# Altium footprint library Pattern No3d 20090609.PcbLib: 323 footprints (part 2 of 22)
Each footprint in its own frame and in the unit in brackets; x right, y up, seen from the top. Pads: shape width x height; smd on the part's side, far side on the other; paste and mask are expansions set on the pad; w line width, h text height; cw(c..) or ccw(c..) is an arc to the next point about the centre after c.
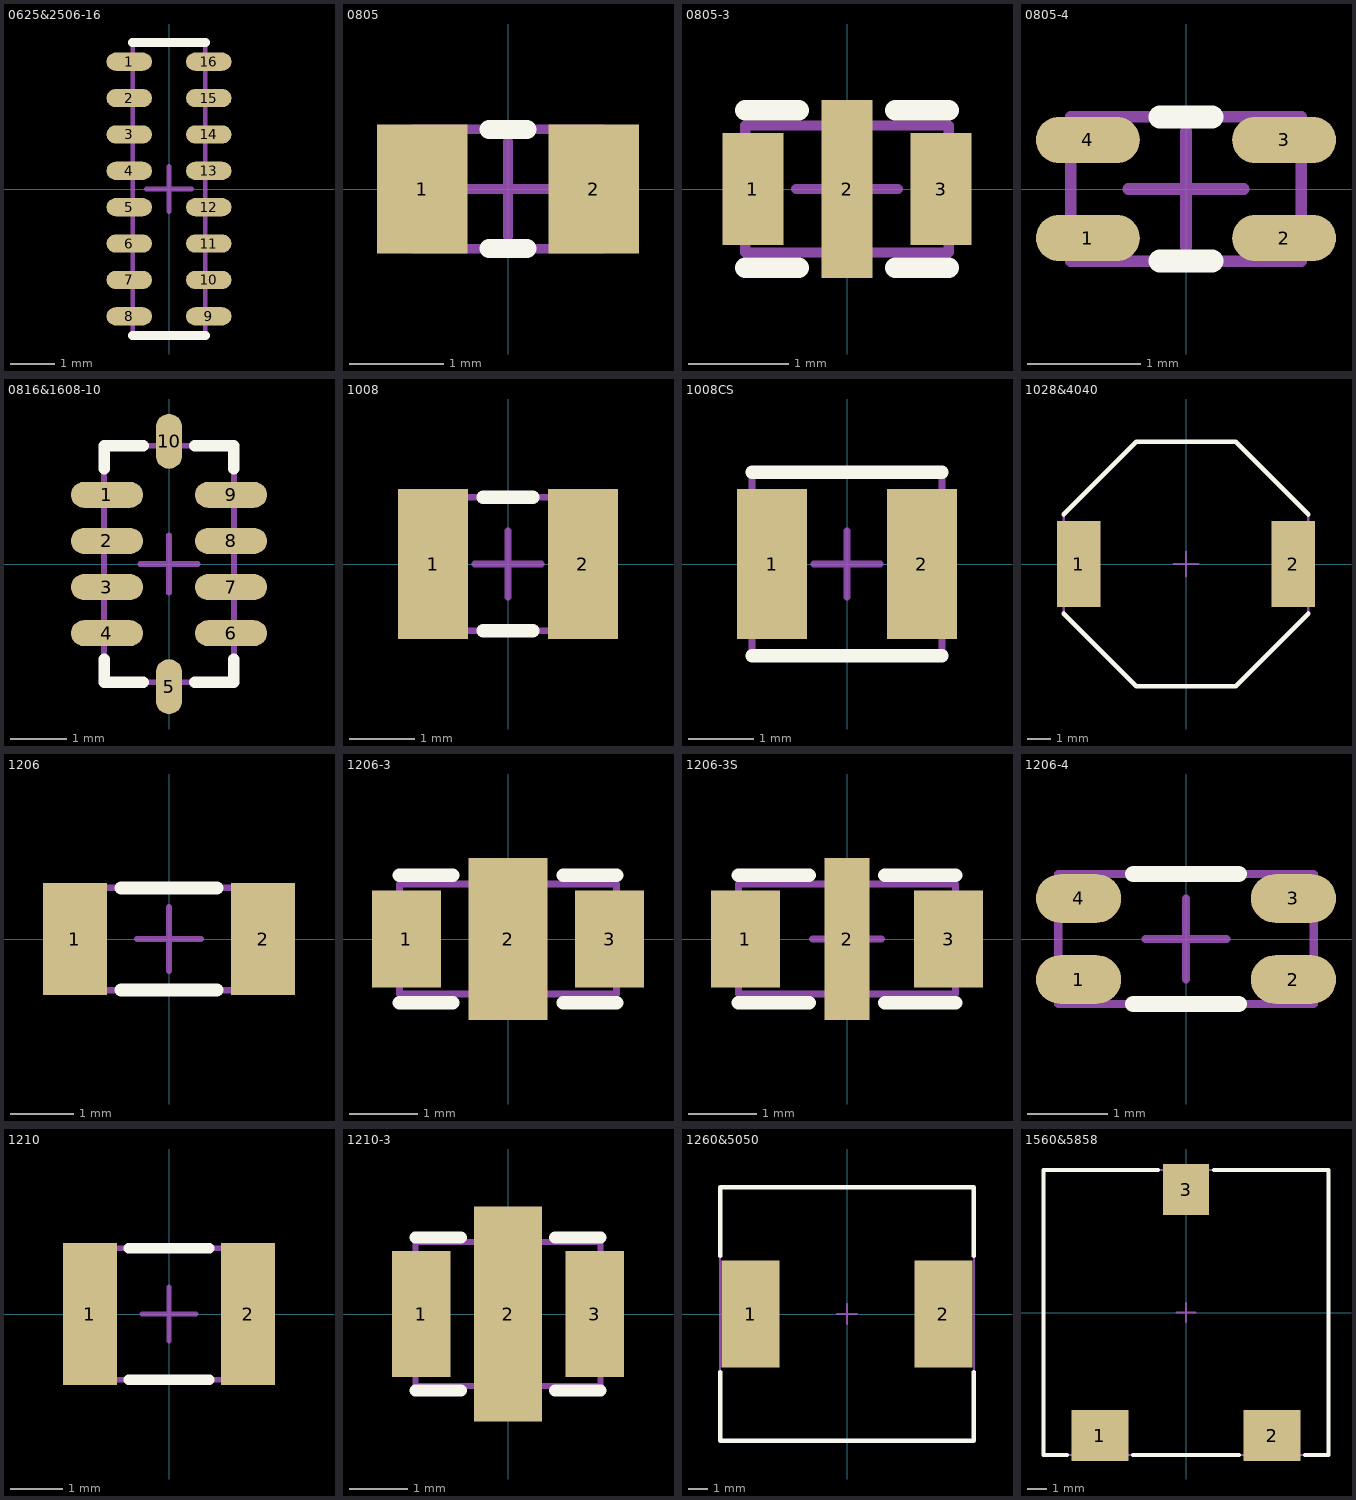
[diagram p1: the footprints below, top view; thin cyan lines are the x and y axes]

## 0625&2506-16 [mil] "http://www.bourns.com/data/global/pdfs/CAT16PC4F12.pdf"
pads (16):
  oval 40x16 smd mask+4: 1(-35,112) 2(-35,80) 3(-35,48) 4(-35,16) 5(-35,-16) 6(-35,-48) 7(-35,-80) 8(-35,-112) 9(35,-112) 10(35,-80) 11(35,-48) 12(35,-16) 13(35,16) 14(35,48) 15(35,80) 16(35,112)
Top Overlay:
  lines w8: -32,-129 32,-129 ; -32,129 32,129
Mechanical 1:
  lines w4: -32,-127 32,-127 32,127 -32,127 -32,-127
Mechanical 15:
  lines w4: -20,0 20,0 ; 0,-20 0,20

## 0805 [mil] "http://www.vishay.com/docs/60031/m.pdf (Case 0805) http://www.yageo.com/pdf/NP0_50-to-500V_10.pdf (Case 0805)"
pads (2):
  rect 38x54 smd mask+4: 1(-36,0) 2(36,0)
Top Overlay:
  lines w8: -8,-25 8,-25 ; -8,25 8,25
Mechanical 1:
  lines w4: -40,-25 40,-25 40,25 -40,25 -40,-25
Mechanical 15:
  lines w4: -20,0 20,0 ; 0,-20 0,20

## 0805-3 [mil] "http://www.yageo.com/pdf/X2Y_series_12.pdf (Case 0805)"
pads (3):
  rect 24x44 smd mask+4: 1(-37,0) 3(37,0)
  rect 20x70 smd mask+4: 2(0,0)
Top Overlay:
  lines w8: -40,-31 -19,-31 ; -40,31 -19,31 ; 19,-31 40,-31 ; 19,31 40,31
Mechanical 1:
  lines w4: -40,-25 -40,25 40,25 40,-25 -40,-25
Mechanical 15:
  lines w4: -20,0 20,0 ; 0,-20 0,20

## 0805-4 [mil] "http://www.murata.com/catalog/c31e.pdf (DLW21S Series)"
pads (4):
  oval 36x16 smd mask+4: 1(-34,-17) 2(34,-17) 3(34,17) 4(-34,17)
Top Overlay:
  lines w8: -9,-25 9,-25 ; -9,25 9,25
Mechanical 1:
  lines w4: -40,-25 -40,25 40,25 40,-25 -40,-25
Mechanical 15:
  lines w4: -20,0 20,0 ; 0,-20 0,20

## 0816&1608-10 [mil] "http://www.bourns.com/data/global/pdfs/CAT25.pdf"
pads (10):
  oval 50x18 smd mask-1000: 1(-43,48) 2(-43,16) 3(-43,-16) 4(-43,-48) 6(43,-48) 7(43,-16) 8(43,16) 9(43,48)
  oval 18x38 smd mask+4: 5(0,-85) 10(0,85)
Top Overlay:
  lines w8: -45,-66 -45,-82 -18,-82 ; -45,66 -45,82 -18,82 ; 18,-82 45,-82 45,-66 ; 18,82 45,82 45,66
Top Solder:
  lines w24: -60,-48 -26,-48 ; -60,-16 -26,-16 ; -60,16 -26,16 ; -60,48 -26,48 ; 26,-48 60,-48 ; 26,-16 60,-16 ; 26,16 60,16 ; 26,48 60,48
Mechanical 1:
  lines w4: -45,-82 -45,82 45,82 45,-82 -45,-82
Mechanical 15:
  lines w4: -20,0 20,0 ; 0,-20 0,20

## 1008 [mil] "http://www.bourns.com/data/global/pdfs/bourns_icsg.pdf (CF252016 Series)"
pads (2):
  rect 42x90 smd mask+4: 1(-45,0) 2(45,0)
Top Overlay:
  lines w8: -15,-40 15,-40 ; -15,40 15,40
Mechanical 1:
  lines w4: -49,-40 -49,40 49,40 49,-40 -49,-40
Mechanical 15:
  lines w4: -20,0 20,0 ; 0,-20 0,20

## 1008CS [mil] "http://www.coilcraft.com/pdfs/1008cs.pdf"
pads (2):
  rect 42x90 smd mask+4: 1(-45,0) 2(45,0)
Top Overlay:
  lines w8: -57,-55 57,-55 ; -57,55 57,55
Mechanical 1:
  lines w4: -57,-55 -57,55 57,55 57,-55 -57,-55
Mechanical 15:
  lines w4: -20,0 20,0 ; 0,-20 0,20

## 1028&4040 [mil] "http://www.bourns.com/data/global/pdfs/bourns_icsg.pdf (SRU1028 Series)"
pads (2):
  rect 72x142 smd mask+4: 1(-177,0) 2(177,0)
Top Overlay:
  lines w8: -202,-82 -82,-202 82,-202 202,-82 ; -202,82 -82,202 82,202 202,82
Mechanical 1:
  lines w4: -202,-82 -202,82 -82,202 82,202 202,82 202,-82 82,-202 -82,-202 -202,-82
Mechanical 15:
  lines w4: -20,0 20,0 ; 0,-20 0,20

## 1206 [mil] "http://www.vishay.com/docs/60031/m.pdf (Case 1206) http://www.yageo.com/pdf/NP0_50-to-500V_10.pdf (Case 1206)"
pads (2):
  rect 40x70 smd mask+4: 1(-59,0) 2(59,0)
Top Overlay:
  lines w8: -30,-32 30,-32 ; -30,32 30,32
Mechanical 1:
  lines w4: -63,-32 -63,32 63,32 63,-32 -63,-32
Mechanical 15:
  lines w4: -20,0 20,0 ; 0,-20 0,20

## 1206-3 [mil] "http://www.yageo.com/pdf/X2Y_series_12.pdf (Case 1206)"
pads (3):
  rect 40x56 smd mask+4: 1(-59,0) 3(59,0)
  rect 46x94 smd mask+4: 2(0,0)
Top Overlay:
  lines w8: -63,-37 -32,-37 ; -63,37 -32,37 ; 32,-37 63,-37 ; 32,37 63,37
Mechanical 1:
  lines w4: -63,-32 -63,32 63,32 63,-32 -63,-32
Mechanical 15:
  lines w4: -20,0 20,0 ; 0,-20 0,20

## 1206-3S [mil] "http://www.murata.com/catalog/c31e.pdf (NFW31S Series)"
pads (3):
  rect 40x56 smd mask+4: 1(-59,0) 3(59,0)
  rect 26x94 smd mask+4: 2(0,0)
Top Overlay:
  lines w8: -63,-37 -22,-37 ; -63,37 -22,37 ; 22,-37 63,-37 ; 22,37 63,37
Mechanical 1:
  lines w4: -63,-32 -63,32 63,32 63,-32 -63,-32
Mechanical 15:
  lines w4: -20,0 20,0 ; 0,-20 0,20

## 1206-4 [mil] "http://www.murata.com/catalog/c31e.pdf (DLW31S Series)"
pads (4):
  oval 42x24 smd mask+4: 1(-53,-20) 2(53,-20) 3(53,20) 4(-53,20)
Top Overlay:
  lines w8: -26,-32 26,-32 ; -26,32 26,32
Mechanical 1:
  lines w4: -63,-32 63,-32 63,32 -63,32 -63,-32
Mechanical 15:
  lines w4: -20,0 20,0 ; 0,-20 0,20

## 1210 [mil] "http://www.yageo.com/pdf/NP0_50-to-500V_10.pdf (Case 1210)"
pads (2):
  rect 40x106 smd mask+4: 1(-59,0) 2(59,0)
Top Overlay:
  lines w8: -30,-49 30,-49 ; -30,49 30,49
Mechanical 1:
  lines w4: -63,-49 -63,49 63,49 63,-49 -63,-49
Mechanical 15:
  lines w4: -20,0 20,0 ; 0,-20 0,20

## 1210-3 [mil] "http://www.yageo.com/pdf/X2Y_series_12.pdf (Case 1210)"
pads (3):
  rect 40x86 smd mask+4: 1(-59,0) 3(59,0)
  rect 46x146 smd mask+4: 2(0,0)
Top Overlay:
  lines w8: -63,-52 -32,-52 ; -63,52 -32,52 ; 32,-52 63,-52 ; 32,52 63,52
Mechanical 1:
  lines w4: -63,-49 -63,49 63,49 63,-49 -63,-49
Mechanical 15:
  lines w4: -20,0 20,0 ; 0,-20 0,20

## 1260&5050 [mil] "http://www.bourns.com/data/global/pdfs/bourns_icsg.pdf (SRR1260 Series)"
pads (2):
  rect 114x212 smd mask+4: 1(-191,0) 2(191,0)
Top Overlay:
  lines w8: -251,-115 -251,-251 251,-251 251,-115 ; -251,115 -251,251 251,251 251,115
Mechanical 1:
  lines w4: -251,-251 251,-251 251,251 -251,251 -251,-251
Mechanical 15:
  lines w4: -20,0 20,0 ; 0,-20 0,20

## 1560&5858 [mil] "http://www.sumida.com/products/pdf/CDEP145.pdf"
pads (3):
  rect 117x105 smd mask+4: 1(-177,-253) 2(177,-253)
  rect 95x105 smd mask+4: 3(0,253)
Top Overlay:
  lines w8: -245,-293 -293,-293 -293,293 -57,293 ; -109,-293 109,-293 ; 57,293 293,293 293,-293 245,-293
Mechanical 1:
  lines w4: -293,-293 -293,293 293,293 293,-293 -293,-293
Mechanical 15:
  lines w4: -20,0 20,0 ; 0,-20 0,20